# Altium footprint library resistor.PCBLIB: 427 footprints (part 14 of 27)
Each footprint in its own frame and in the unit in brackets; x right, y up, seen from the top. Pads: shape width x height; smd on the part's side, far side on the other; paste and mask are expansions set on the pad; w line width, h text height; cw(c..) or ccw(c..) is an arc to the next point about the centre after c.
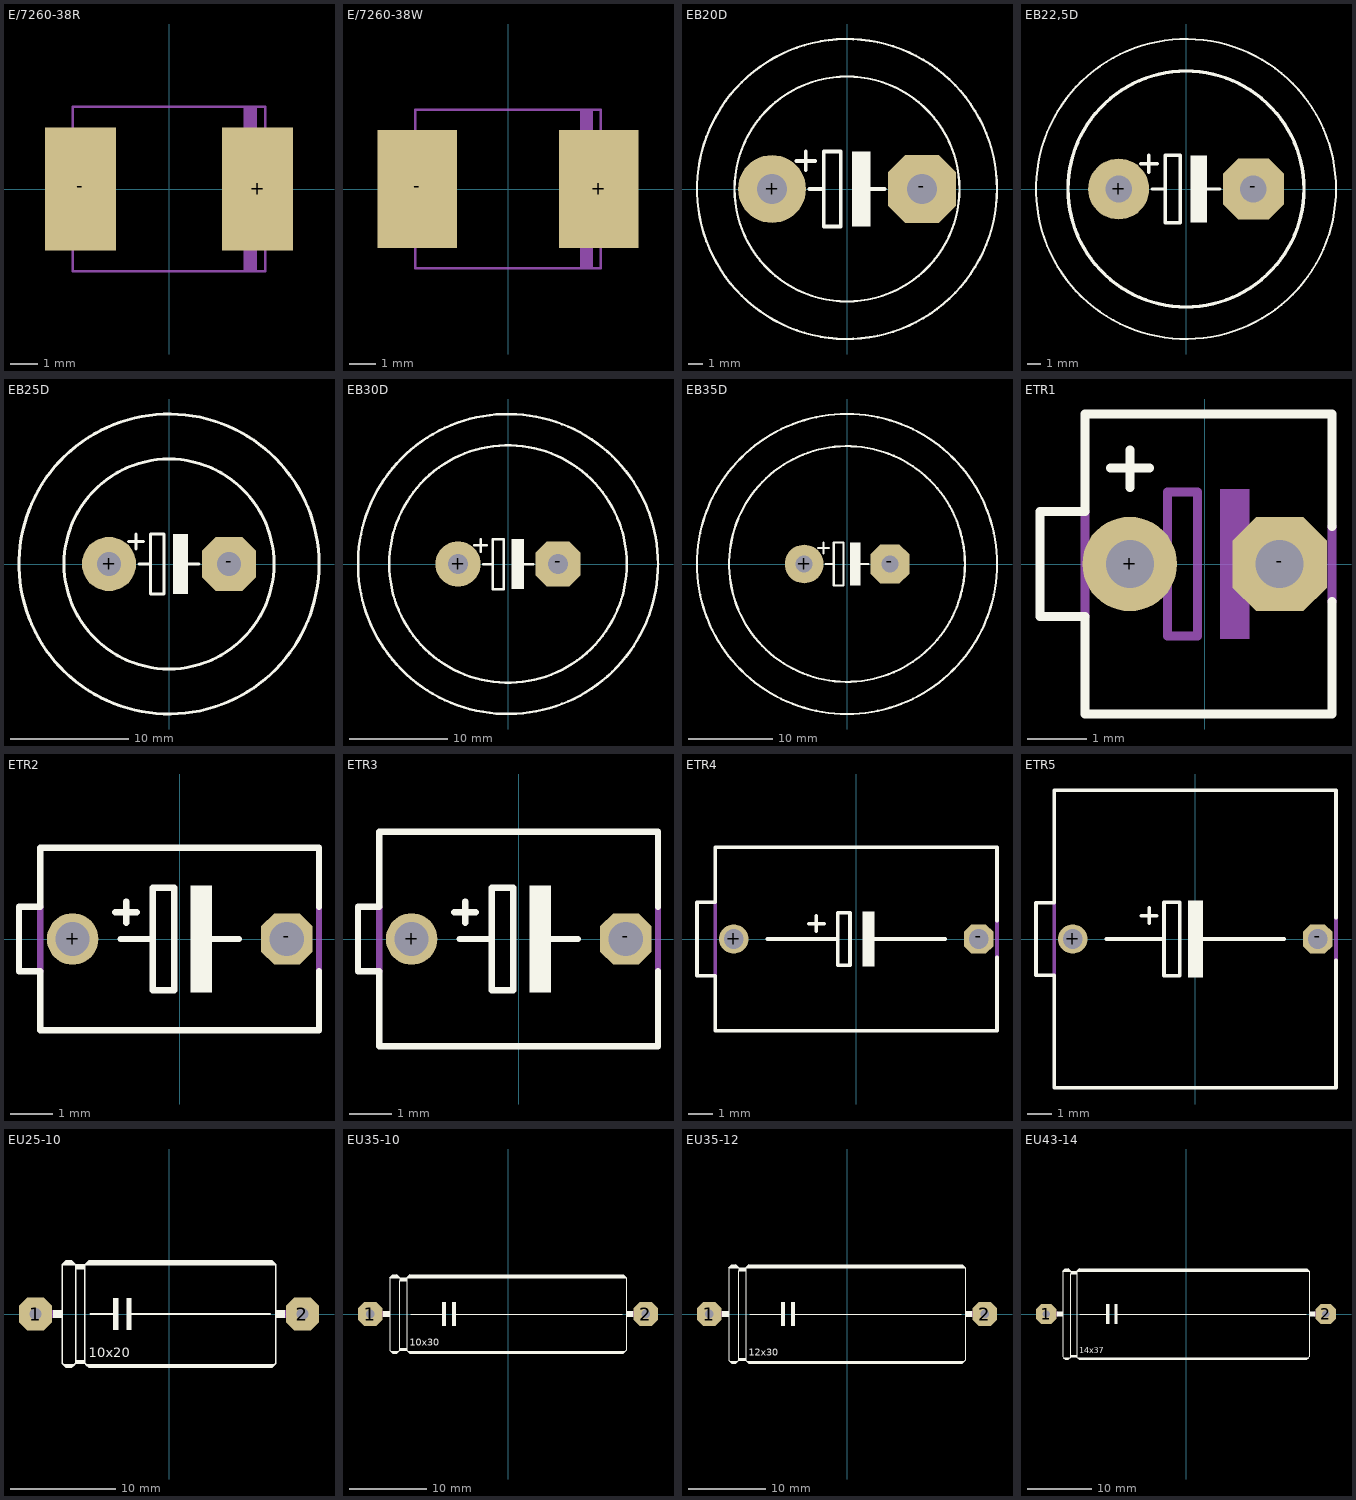
[diagram p13: the footprints below, top view; thin cyan lines are the x and y axes]

## E/7260-38R [mil]
pads (2):
  rect 100.39x173.23 smd: +(125,0) -(-125,0)
Mechanical 16:
  rectangle: -143.7,-80.71 -137.8,80.71
  rectangle: 137.8,-80.71 143.7,80.71
  rectangle: 105.32,-117.13 124.02,117.13
  lines w4: -135.83,-116.14 135.83,-116.14 135.83,116.14 -135.83,116.14 -135.83,-116.14

## E/7260-38W [mil]
pads (2):
  rect 116.14x173.23 smd: +(132.87,0) -(-132.87,0)
Mechanical 16:
  rectangle: -143.7,-80.71 -137.8,80.71
  rectangle: 137.8,-80.71 143.7,80.71
  rectangle: 105.32,-117.13 124.02,117.13
  lines w4: -135.83,-116.14 135.83,-116.14 135.83,116.14 -135.83,116.14 -135.83,-116.14

## EB20D [mil]
pads (2):
  round 181 hole 79: +(-200,0)
  oct 181x181 hole 79: -(200,0)
Top Overlay:
  circle w6: c0,0 r400
  circle w6: c0,0 r300
  rectangle: 13,-100 63,100
  lines w10: -135,75 -85,75 ; -110,50 -110,100 ; -100,0 -62,0 ; 25,0 100,0 ; -62,0 -62,100 -17,100 -17,-100 -62,-100 -62,0

## EB22,5D [mil]
pads (2):
  round 181 hole 79: +(-200,0)
  oct 181x181 hole 79: -(200,0)
Top Overlay:
  circle w10: c0,0 r350
  circle w6: c0,0 r445
  rectangle: 13,-100 63,100
  lines w10: -135,75 -85,75 ; -110,50 -110,100 ; -100,0 -62,0 ; 25,0 100,0 ; -62,0 -62,100 -17,100 -17,-100 -62,-100 -62,0

## EB25D [mil]
pads (2):
  round 181 hole 79: +(-200,0)
  oct 181x181 hole 79: -(200,0)
Top Overlay:
  circle w10: c0,0 r500
  circle w10: c0,0 r350
  rectangle: 13,-100 63,100
  lines w10: -135,75 -85,75 ; -110,50 -110,100 ; -100,0 -62,0 ; 25,0 100,0 ; -62,0 -62,100 -17,100 -17,-100 -62,-100 -62,0

## EB30D [mil]
pads (2):
  round 181 hole 79: +(-200,0)
  oct 181x181 hole 79: -(200,0)
Top Overlay:
  circle w10: c0,0 r600
  circle w10: c0,0 r475
  rectangle: 13,-100 63,100
  lines w10: -135,75 -85,75 ; -110,50 -110,100 ; -100,0 -62,0 ; 25,0 100,0 ; -62,0 -62,100 -17,100 -17,-100 -62,-100 -62,0

## EB35D [mil]
pads (2):
  round 181 hole 79: +(-200,0)
  oct 181x181 hole 79: -(200,0)
Top Overlay:
  circle w10: c0,0 r700
  circle w10: c0,0 r550
  rectangle: 13,-100 63,100
  lines w10: -135,75 -85,75 ; -110,50 -110,100 ; -100,0 -62,0 ; 55,0 100,0 ; -62,0 -62,100 -17,100 -17,-100 -62,-100 -62,0

## ETR1 [mil]
pads (2):
  round 63 hole 32: +(-50,0)
  oct 63x63 hole 32: -(50,0)
Top Overlay:
  lines w6: -63,64 -37,64 ; -50,51 -50,76 ; 85,-25 85,-100 -80,-100 -80,-35 -110,-35 -110,35 -80,35 -80,100 85,100 85,25
Mechanical 16:
  rectangle: 10,-50 30,50
  lines w6: -80,-35 -80,35 ; -65,0 -25,0 ; 25,0 65,0 ; 85,-25 85,25 ; -25,0 -25,-48 -5,-48 -5,48 -25,48 -25,0

## ETR2 [mil]
pads (2):
  round 48 hole 32: +(-100,0)
  oct 48x48 hole 32: -(100,0)
Top Overlay:
  rectangle: 10,-50 30,50
  lines w6: -60,25 -40,25 ; -55,0 -25,0 ; -50,15 -50,35 ; 25,0 55,0 ; 130,-30 130,-85 -130,-85 -130,-30 -150,-30 -150,30 -130,30 -130,85 130,85 130,30 ; -25,0 -25,-48 -5,-48 -5,48 -25,48 -25,0
Mechanical 16:
  lines w6: -130,-30 -130,30 ; 130,-30 130,30

## ETR3 [mil]
pads (2):
  round 48 hole 32: +(-100,0)
  oct 48x48 hole 32: -(100,0)
Top Overlay:
  rectangle: 10,-50 30,50
  lines w6: -60,25 -40,25 ; -55,0 -25,0 ; -50,15 -50,35 ; 25,0 55,0 ; 130,-30 130,-100 -130,-100 -130,-30 -150,-30 -150,30 -130,30 -130,100 130,100 130,30 ; -25,0 -25,-48 -5,-48 -5,48 -25,48 -25,0
Mechanical 16:
  lines w6: -130,-30 -130,30 ; 130,-30 130,30

## ETR4 [mil]
pads (2):
  round 48 hole 32: +(-200,0)
  oct 48x48 hole 32: -(200,0)
Top Overlay:
  rectangle: 10,-45 30,45
  lines w6: -145,0 -30,0 ; -77,25 -52,25 ; -65,13 -65,38 ; 20,0 145,0 ; 230,-30 230,-150 -230,-150 -230,-60 -260,-60 -260,60 -230,60 -230,150 230,150 230,30 ; -30,0 -30,43 -10,43 -10,-43 -30,-43 -30,0
Mechanical 16:
  lines w6: -230,-60 -230,60 ; 230,-30 230,30

## ETR5 [mil]
pads (2):
  round 48 hole 32: +(-200,0)
  oct 48x48 hole 32: -(200,0)
Top Overlay:
  rectangle: -12,-63 13,63
  lines w6: -145,0 -51,0 ; -88,38 -63,38 ; -75,26 -75,51 ; 0,0 145,0 ; 230,-35 230,-243 -230,-243 -230,-59 -260,-59 -260,59 -230,59 -230,243 230,243 230,35 ; -51,0 -51,60 -25,60 -25,-60 -51,-60 -51,0
Mechanical 16:
  lines w6: -230,-59 -230,59 ; 230,-35 230,35

## EU25-10 [mil]
pads (2):
  oct 124x124 hole 44: 1(-500,0) 2(500,0)
Top Overlay:
  rectangle: -160,-60 -140,60
  rectangle: -435,-15 -400,15
  rectangle: 400,-15 435,15
  rectangle: -210,-60 -190,60
  lines w6: -295,0 -200,0 ; -145,0 380,0 ; -400,185 -400,-185 -395,-190 ; -400,185 -385,200 -365,200 -350,185 ; -400,185 -350,185 ; -395,-190 -355,-190 ; -395,-190 -385,-200 -365,-200 -355,-190 ; -355,-190 -350,-185 ; -350,-185 -350,-175 ; -350,-185 -315,-185 ; -350,-175 -315,-175 ; -350,-175 -350,170 ; -350,170 -350,185 ; -350,170 -315,170 ; -350,185 -315,185 ; -315,-185 -310,-190 ; -315,-185 -315,-175 ; -315,-175 -315,170 ; -315,170 -315,185 ; -315,185 -300,200 385,200 400,185 ; -315,185 400,185 ; -310,-190 -300,-200 385,-200 395,-190 ; -310,-190 395,-190 ; 395,-190 400,-185 400,185
  lines w10: -385,-195 -365,-195 ; -345,-180 -320,-180 ; -300,-195 385,-195
  lines w12: -390,190 -360,190 ; -385,195 -365,195 ; -345,175 -320,175 ; -345,180 -320,180 ; -305,190 390,190 ; -300,195 385,195
  text "10x20" at -300,-175 h60.45
Mechanical 16:
  lines w30: -500,0 -435,0 ; 435,0 500,0

## EU35-10 [mil]
pads (2):
  oct 124x124 hole 44: 1(-700,0) 2(700,0)
Top Overlay:
  rectangle: -285,-60 -265,60
  rectangle: -635,-15 -600,15
  rectangle: 600,-15 635,15
  rectangle: -335,-60 -315,60
  lines w6: -495,0 -325,0 ; -270,0 580,0 ; -600,185 -600,-185 -595,-190 ; -600,185 -585,200 -565,200 -550,185 ; -600,185 -550,185 ; -595,-190 -555,-190 ; -595,-190 -585,-200 -565,-200 -555,-190 ; -555,-190 -550,-185 ; -550,-185 -550,-175 ; -550,-185 -515,-185 ; -550,-175 -515,-175 ; -550,-175 -550,170 ; -550,170 -550,185 ; -550,170 -515,170 ; -550,185 -515,185 ; -515,-185 -510,-190 ; -515,-185 -515,-175 ; -515,-175 -515,170 ; -515,170 -515,185 ; -515,185 -500,200 585,200 600,185 ; -515,185 600,185 ; -510,-190 -500,-200 585,-200 595,-190 ; -510,-190 595,-190 ; 595,-190 600,-185 600,185
  lines w10: -585,-195 -565,-195 ; -545,-180 -520,-180 ; -500,-195 585,-195
  lines w12: -590,190 -560,190 ; -585,195 -565,195 ; -545,175 -520,175 ; -545,180 -520,180 ; -505,190 590,190 ; -500,195 585,195
  text "10x30" at -500,-175 h60.45
Mechanical 16:
  lines w30: -700,0 -635,0 ; 635,0 700,0

## EU35-12 [mil]
pads (2):
  oct 124x124 hole 44: 1(-700,0) 2(700,0)
Top Overlay:
  rectangle: -285,-60 -265,60
  rectangle: -635,-15 -600,15
  rectangle: 600,-15 635,15
  rectangle: -335,-60 -315,60
  lines w6: -495,0 -325,0 ; -270,0 580,0 ; -600,235 -600,-235 -595,-240 ; -600,235 -585,250 -565,250 -550,235 ; -600,235 -550,235 ; -595,-240 -555,-240 ; -595,-240 -585,-250 -565,-250 -555,-240 ; -555,-240 -550,-235 ; -550,-235 -550,-225 ; -550,-235 -515,-235 ; -550,-225 -515,-225 ; -550,-225 -550,220 ; -550,220 -550,235 ; -550,220 -515,220 ; -550,235 -515,235 ; -515,-235 -510,-240 ; -515,-235 -515,-225 ; -515,-225 -515,220 ; -515,220 -515,235 ; -515,235 -500,250 585,250 600,235 ; -515,235 600,235 ; -510,-240 -500,-250 585,-250 595,-240 ; -510,-240 595,-240 ; 595,-240 600,-235 600,235
  lines w10: -585,-245 -565,-245 ; -545,-230 -520,-230 ; -500,-245 585,-245
  lines w12: -590,240 -560,240 ; -585,245 -565,245 ; -545,225 -520,225 ; -545,230 -520,230 ; -505,240 590,240 ; -500,245 585,245
  text "12x30" at -500,-225 h60.45
Mechanical 16:
  lines w30: -700,0 -635,0 ; 635,0 700,0

## EU43-14 [mil]
pads (2):
  oct 124x124 hole 44: 1(-850,0) 2(850,0)
Top Overlay:
  rectangle: -435,-60 -415,60
  rectangle: -485,-60 -465,60
  rectangle: 750,-15 785,15
  rectangle: -785,-15 -750,15
  lines w6: -645,0 -475,0 ; -420,0 730,0 ; -750,260 -750,-260 -745,-265 ; -750,260 -735,275 -715,275 -700,260 ; -750,260 -700,260 ; -745,-265 -705,-265 ; -745,-265 -735,-275 -715,-275 -705,-265 ; -705,-265 -700,-260 ; -700,-260 -700,-250 ; -700,-260 -665,-260 ; -700,-250 -665,-250 ; -700,-250 -700,245 ; -700,245 -700,260 ; -700,245 -665,245 ; -700,260 -665,260 ; -665,-260 -660,-265 ; -665,-260 -665,-250 ; -665,-250 -665,245 ; -665,245 -665,260 ; -665,260 -650,275 735,275 750,260 ; -665,260 750,260 ; -660,-265 -650,-275 735,-275 745,-265 ; -660,-265 745,-265 ; 745,-265 750,-260 750,260
  lines w10: -735,-270 -715,-270 ; -695,-255 -670,-255 ; -650,-270 735,-270
  lines w12: -740,265 -710,265 ; -735,270 -715,270 ; -695,250 -670,250 ; -695,255 -670,255 ; -655,265 740,265 ; -650,270 735,270
  text "14x37" at -650,-250 h60.45
Mechanical 16:
  lines w30: -850,0 -785,0 ; 785,0 850,0